# EAGLE library part CUSTOM_TP4056 (library v13)
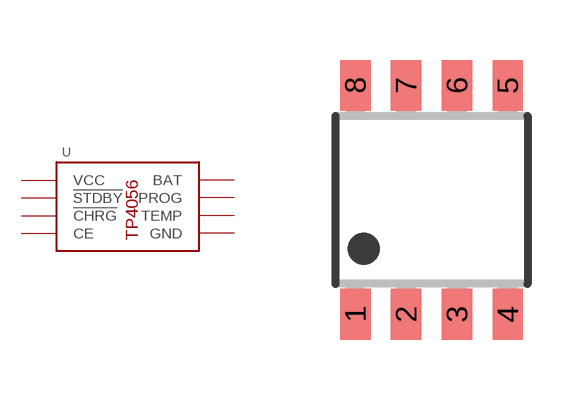
[diagram p10: symbol with the pads of CUSTOM_SOP8; footprint CUSTOM_SOP8]

Designator prefix -

## CUSTOM_TP4056  [CUSTOM_SOP8]
1  TEMP
2  PROG
3  GND
4  VCC
5  BAT
6  !STDBY
7  !CHRG
8  CE

## Footprint CUSTOM_SOP8 (pad centres in mm)
Small Outline Package 8 8P2S-A Plastic 8pin 225mil SOP Source: Mitsubishi M5218AL/P/FP
smd 0.76 x 1.27: 1 -1.905,-2.86; 2 -0.635,-2.86; 3 0.635,-2.86; 4 1.905,-2.86; 5 1.905,2.86; 6 0.635,2.86; 7 -0.635,2.86; 8 -1.905,2.86